# Altium footprint library BitCoin.PcbLib: 7 footprints
Each footprint in its own frame and in the unit in brackets; x right, y up, seen from the top. Pads: shape width x height; smd on the part's side, far side on the other; paste and mask are expansions set on the pad; w line width, h text height; cw(c..) or ccw(c..) is an arc to the next point about the centre after c.
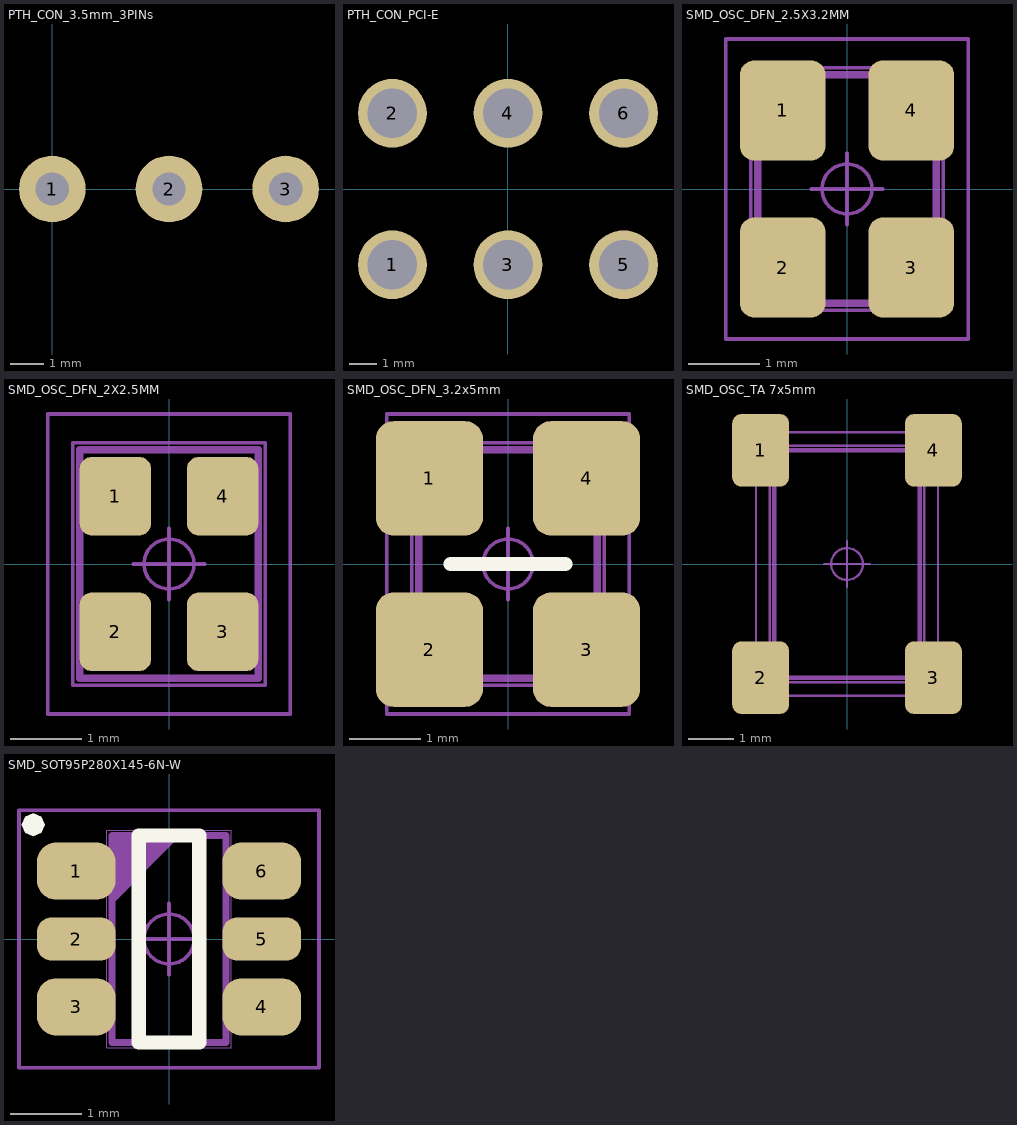
[diagram p0: the footprints below, top view; thin cyan lines are the x and y axes]

## PTH_CON_3.5mm_3PINs [mm]
pads (3):
  round 2 hole 1: 1(0,0) 2(3.5,0) 3(7,0)

## PTH_CON_PCI-E [mm]
pads (6):
  round 2.5 hole 1.8 mask+0.075: 1(-4.2,-2.75) 2(-4.2,2.75) 3(0,-2.75) 4(0,2.75) 5(4.2,-2.75) 6(4.2,2.75)
3D body: height 11.4, standoff -3.6, extent -7.087,-3.4 7.087,16.57

## SMD_OSC_DFN_2.5X3.2MM [mm]
height 1
pads (4):
  rrect33% 1.2x1.4 smd mask+0.075: 1(-0.9,1.1) 2(-0.9,-1.1) 3(0.9,-1.1) 4(0.9,1.1)
Mechanical 3:
  lines w0.1: -1.25,-1.6 1.25,-1.6 1.25,1.6 -1.25,1.6 -1.25,-1.6
  text ".Designator" at 0,0 h1
Mechanical 13:
  lines w0.05: -1.35,-1.7 1.35,-1.7 1.35,1.7 -1.35,1.7 -1.35,-1.7
Mechanical 15:
  circle w0.05: c0,0 r0.35
  lines w0.05: -0.5,0 0.5,0 ; 0,-0.5 0,0.5 ; -1.7,-2.1 1.7,-2.1 1.7,2.1 -1.7,2.1 -1.7,-2.1
3D body: height 1, standoff 0, extent -1.25,-1.6 1.25,1.6

## SMD_OSC_DFN_2X2.5MM [mm]
height 1
pads (4):
  rrect33% 1x1.1 smd mask+0.075: 1(-0.75,0.95) 2(-0.75,-0.95) 3(0.75,-0.95) 4(0.75,0.95)
Mechanical 3:
  lines w0.1: -1.25,-1.6 -1.25,1.6 1.25,1.6 1.25,-1.6 -1.25,-1.6
  text ".Designator" at 0,0 h1
Mechanical 13:
  lines w0.05: -1.35,-1.7 -1.35,1.7 1.35,1.7 1.35,-1.7 -1.35,-1.7
Mechanical 15:
  circle w0.05: c0,0 r0.35
  lines w0.05: -0.5,0 0.5,0 ; 0,-0.5 0,0.5 ; -1.7,-2.1 -1.7,2.1 1.7,2.1 1.7,-2.1 -1.7,-2.1
3D body: height 1, standoff 0, extent -1.25,-1.6 1.25,1.6

## SMD_OSC_DFN_3.2x5mm [mm]
pads (4):
  rrect33% 1.5x1.6 smd mask+0.075: 1(-1.1,1.2) 2(-1.1,-1.2) 3(1.1,-1.2) 4(1.1,1.2)
Top Overlay:
  lines w0.2: -0.8,0 0.8,0
Mechanical 3:
  lines w0.1: -1.25,-1.6 -1.25,1.6 1.25,1.6 1.25,-1.6 -1.25,-1.6
  text ".Designator" at 0,0 h1
Mechanical 13:
  lines w0.05: -1.35,-1.7 -1.35,1.7 1.35,1.7 1.35,-1.7 -1.35,-1.7
Mechanical 15:
  circle w0.05: c0,0 r0.35
  lines w0.05: -0.5,0 0.5,0 ; 0,-0.5 0,0.5 ; -1.7,-2.1 -1.7,2.1 1.7,2.1 1.7,-2.1 -1.7,-2.1
3D body: height 1, standoff 0, extent -1.25,-1.6 1.25,1.6

## SMD_OSC_TA 7x5mm [mm]
height 0.85
pads (4):
  rrect32% 1.25x1.6 smd mask+0.075: 1(-1.9,2.5) 2(-1.9,-2.5) 3(1.9,-2.5) 4(1.9,2.5)
Mechanical 3:
  lines w0.1: -1.6,-2.5 1.6,-2.5 1.6,2.5 -1.6,2.5 -1.6,-2.5
  text ".Designator" at 0,0 h1
Mechanical 13:
  lines w0.05: -1.7,-2.6 1.7,-2.6 1.7,2.6 -1.7,2.6 -1.7,-2.6
Mechanical 15:
  circle w0.05: c0,0 r0.35
  lines w0.05: -0.5,0 0.5,0 ; 0,-0.5 0,0.5 ; -2,-2.9 2,-2.9 2,2.9 -2,2.9 -2,-2.9
3D body: height 0.85, standoff 0, extent -1.6,-2.5 1.6,2.5

## SMD_SOT95P280X145-6N-W [mm]
pads (6):
  rrect67% 1.1x0.8 smd mask+0.075: 1(-1.3,0.95) 3(-1.3,-0.95) 4(1.3,-0.95) 6(1.3,0.95)
  rrect67% 1.1x0.6 smd mask+0.075: 2(-1.3,0) 5(1.3,0)
Top Overlay:
  region: -1.738,1.6 -1.785,1.715 -1.9,1.762 -2.015,1.715 -2.062,1.6 -2.015,1.485 -1.9,1.438 -1.785,1.485
  lines w0.2: -0.425,-1.45 0.425,-1.45 0.425,1.45 -0.425,1.45 -0.425,-1.45
Mechanical 3:
  lines w0.1: -0.8,0.55 0.1,1.45 ; -0.8,0.65 0,1.45 ; -0.8,0.75 -0.1,1.45 ; -0.8,0.85 -0.2,1.45 ; -0.8,0.95 -0.3,1.45 ; -0.8,1.05 -0.4,1.45 ; -0.8,1.15 -0.5,1.45 ; -0.8,1.25 -0.6,1.45 ; -0.8,1.35 -0.7,1.45 ; -0.8,-1.45 0.8,-1.45 0.8,1.45 -0.8,1.45 -0.8,-1.45
  text ".Designator" at 0,0 h1
Mechanical 13:
  lines w0.001: -0.875,-1.525 0.875,-1.525 0.875,1.525 -0.875,1.525 -0.875,-1.525
Mechanical 15:
  circle w0.05: c0,0 r0.35
  lines w0.05: -0.5,0 0.5,0 ; 0,-0.5 0,0.5 ; -2.1,-1.8 2.1,-1.8 2.1,1.8 -2.1,1.8 -2.1,-1.8
3D body: height 1.45, standoff 0, extent -1.4,-1.45 1.4,1.45